# Altium schematic symbol library Voltage Regulators Linear.SchLib: 27 symbols
Pins are listed as number, name and electrical type; pins without a type are passive.

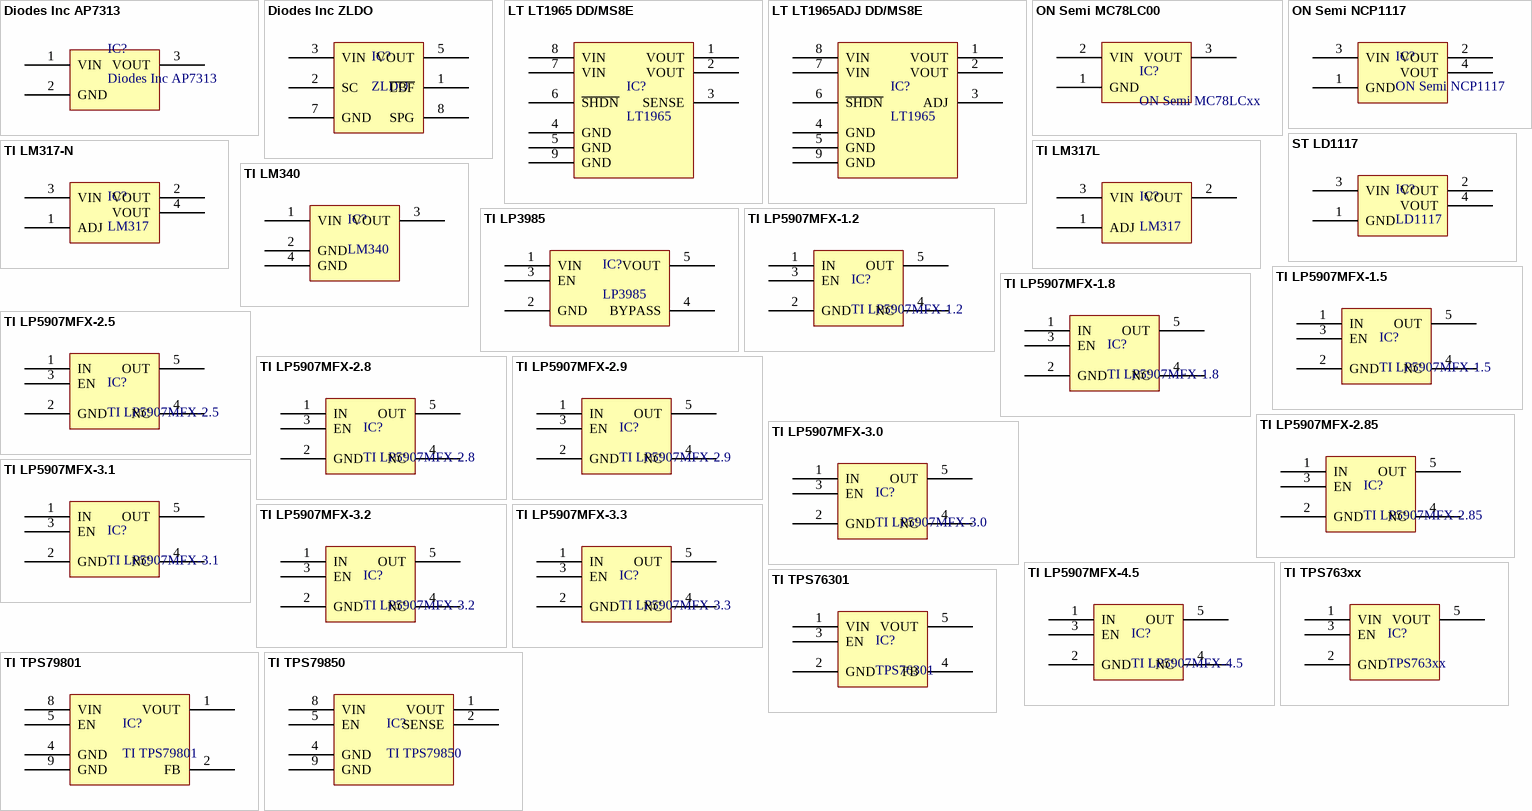
[diagram p0: symbols Diodes Inc AP7313 to TI TPS79850]

## Diodes Inc AP7313
designator IC?
150mA Low quiescent current fast transient low drop out linear regulator
pins: 1 VIN, 2 GND, 3 VOUT

## Diodes Inc ZLDO
designator IC?, comment ZLDO
Diodes Inc 5.0 VOLT ULTRA LOW DROPOUT  REGULATOR
pins: 1 ~{LBF} "Low Battery Flag", 2 SC "Shutdown Control", 3 VIN, 5 VOUT "1uF or greater", 7 GND, 8 SPG "Shaping - 10pF to Vout"

## LT LT1965 DD/MS8E
designator IC?, comment LT1965
1.1A, Low Noise, Low Dropout Linear Regulator
pins: 1 VOUT, 2 VOUT, 3 SENSE, 4 GND, 5 GND, 6 ~{SHDN}, 7 VIN, 8 VIN, 9 GND

## LT LT1965ADJ DD/MS8E
designator IC?, comment LT1965
1.1A, Low Noise, Low Dropout Linear Regulator
pins: 1 VOUT, 2 VOUT, 3 ADJ, 4 GND, 5 GND, 6 ~{SHDN}, 7 VIN, 8 VIN, 9 GND

## ON Semi MC78LC00
designator IC?, comment ON Semi MC78LCxx
Micropower Voltage  Regulator
pins: 1 GND, 2 VIN, 3 VOUT

## ON Semi NCP1117
designator IC?
1.0A Low-Dropout Positive Fixed and Adjustable Voltage Regulators
pins: 1 GND, 2 VOUT, 3 VIN, 4 VOUT

## ST LD1117
designator IC?, comment LD1117
Wide Temperature Three-Pin Adjustable Regulator
pins: 1 GND, 2 VOUT, 3 VIN, 4 VOUT

## TI LM317-N
designator IC?, comment LM317
Wide Temperature Three-Pin Adjustable Regulator
pins: 1 ADJ, 2 VOUT, 3 VIN, 4 VOUT

## TI LM317L
designator IC?, comment LM317
Wide Temperature Three-Pin Adjustable Regulator
pins: 1 ADJ, 2 VOUT, 3 VIN

## TI LM340
designator IC?, comment LM340
Wide Temperature Three-Pin Adjustable Regulator
pins: 1 VIN, 2 GND, 3 VOUT, 4 GND

## TI LP3985
designator IC?, comment LP3985
Micropower 150mA Low-Noise Ultra Low-Dropout CMOS Voltage Regulator
pins: 1 VIN, 2 GND, 3 EN, 4 BYPASS, 5 VOUT

## TI LP5907MFX-1.2
designator IC?
250mA low-noise LDO
pins: 1 IN, 2 GND, 3 EN, 4 NC, 5 OUT

## TI LP5907MFX-1.5
designator IC?
250mA low-noise LDO
pins: 1 IN, 2 GND, 3 EN, 4 NC, 5 OUT

## TI LP5907MFX-1.8
designator IC?
250mA low-noise LDO
pins: 1 IN, 2 GND, 3 EN, 4 NC, 5 OUT

## TI LP5907MFX-2.5
designator IC?
250mA low-noise LDO
pins: 1 IN, 2 GND, 3 EN, 4 NC, 5 OUT

## TI LP5907MFX-2.8
designator IC?
250mA low-noise LDO
pins: 1 IN, 2 GND, 3 EN, 4 NC, 5 OUT

## TI LP5907MFX-2.9
designator IC?
250mA low-noise LDO
pins: 1 IN, 2 GND, 3 EN, 4 NC, 5 OUT

## TI LP5907MFX-2.85
designator IC?
250mA low-noise LDO
pins: 1 IN, 2 GND, 3 EN, 4 NC, 5 OUT

## TI LP5907MFX-3.0
designator IC?
250mA low-noise LDO
pins: 1 IN, 2 GND, 3 EN, 4 NC, 5 OUT

## TI LP5907MFX-3.1
designator IC?
250mA low-noise LDO
pins: 1 IN, 2 GND, 3 EN, 4 NC, 5 OUT

## TI LP5907MFX-3.2
designator IC?
250mA low-noise LDO
pins: 1 IN, 2 GND, 3 EN, 4 NC, 5 OUT

## TI LP5907MFX-3.3
designator IC?
250mA low-noise LDO
pins: 1 IN, 2 GND, 3 EN, 4 NC, 5 OUT

## TI LP5907MFX-4.5
designator IC?
250mA low-noise LDO
pins: 1 IN, 2 GND, 3 EN, 4 NC, 5 OUT

## TI TPS763xx
designator IC?, comment TPS763xx
150mA Low-Dropout Regulator
pins: 1 VIN "Desc1", 2 GND "Desc1", 3 EN "Desc1", 5 VOUT "Desc1"

## TI TPS76301
designator IC?, comment TPS76301
150mA Low-Dropout Regulator
pins: 1 VIN "Desc1", 2 GND "Desc1", 3 EN "Desc1", 4 FB "Desc1", 5 VOUT "Desc1"

## TI TPS79801
designator IC?
50 mA, 3 V TO 50 V, MICROPOWER, LOW-DROPOUT LINEAR REGULATOR
pins: 1 VOUT, 2 FB, 4 GND, 5 EN, 8 VIN, 9 GND

## TI TPS79850
designator IC?
50 mA, 3 V TO 50 V, MICROPOWER, LOW-DROPOUT LINEAR REGULATOR
pins: 1 VOUT, 2 SENSE, 4 GND, 5 EN, 8 VIN, 9 GND